# Altium footprint library POT_SMD_TYPE1.PcbLib: 1 footprints
Each footprint in its own frame and in the unit in brackets; x right, y up, seen from the top. Pads: shape width x height; smd on the part's side, far side on the other; paste and mask are expansions set on the pad; w line width, h text height; cw(c..) or ccw(c..) is an arc to the next point about the centre after c.
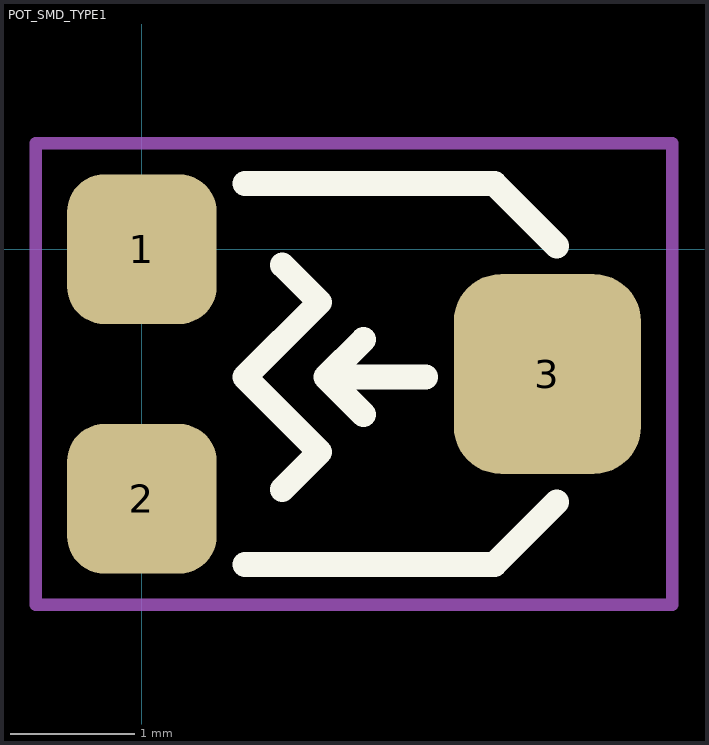
[diagram p0: the footprint, top view; thin cyan lines are the x and y axes]

## POT_SMD_TYPE1 [mm]
pads (3):
  rrect50% 1.2x1.2 smd: 1(0,0) 2(0,-2)
  rrect50% 1.5x1.6 smd: 3(3.25,-1)
Top Overlay:
  lines w0.2: 0.825,-2.525 2.825,-2.525 3.325,-2.025 ; 0.825,0.525 2.825,0.525 3.325,0.025 ; 1.125,-1.925 1.425,-1.625 0.825,-1.025 1.425,-0.425 1.125,-0.125 ; 1.775,-1.325 1.475,-1.025 ; 1.775,-0.725 1.475,-1.025 ; 2.275,-1.025 1.475,-1.025
Top Courtyard:
  lines w0.1: -0.85,-2.85 -0.85,0.85 4.25,0.85 4.25,-2.85 -0.6,-2.85 -0.85,-2.85
3D body "step_temp.STEP": height 1.62, standoff 0.04, extent -0.128,-2.524 3.328,0.508